# Altium footprint library Connectors.PcbLib: 3 footprints
Each footprint in its own frame and in the unit in brackets; x right, y up, seen from the top. Pads: shape width x height; smd on the part's side, far side on the other; paste and mask are expansions set on the pad; w line width, h text height; cw(c..) or ccw(c..) is an arc to the next point about the centre after c.
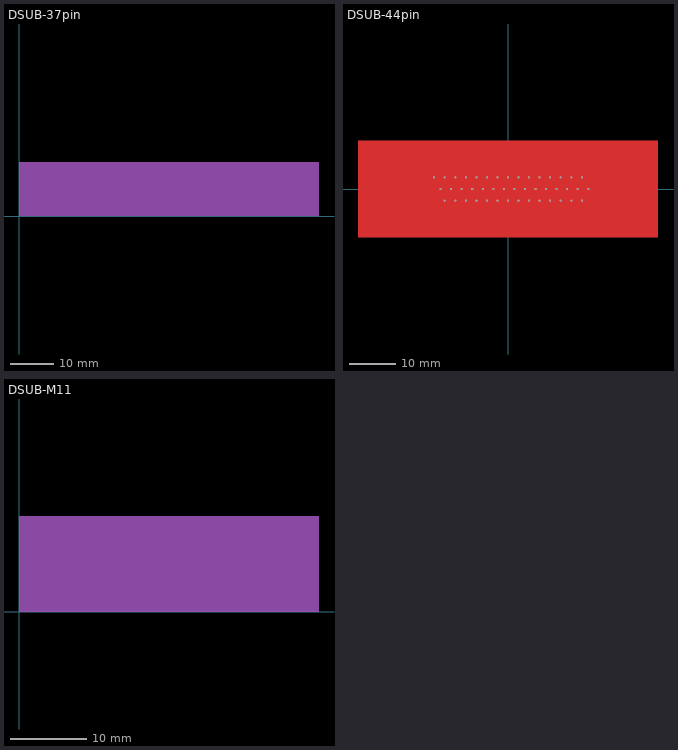
[diagram p0: the footprints below, top view; thin cyan lines are the x and y axes]

## DSUB-37pin [mil]
Top Solder:
  rectangle: 0,0 2732.28,492.13

## DSUB-44pin [mm] "A-HDF44LL-WP"
pads (44):
  round 0.44 hole 0.432: 1(-16.002,2.54) 2(-13.716,2.54) 3(-11.43,2.54) 4(-9.144,2.54) 5(-6.858,2.54) 6(-4.572,2.54) 7(-2.286,2.54) 8(0,2.54) 9(2.286,2.54) 10(4.572,2.54) 11(6.858,2.54) 12(9.144,2.54) 13(11.43,2.54) 14(13.716,2.54) 15(16.002,2.54) 16(-14.605,0) 17(-12.319,0) 18(-10.033,0) 19(-7.747,0) 20(-5.461,0) 21(-3.175,0) 22(-0.889,0) 23(1.397,0) 24(3.683,0) 25(5.969,0) 26(8.255,0) 27(10.541,0) 28(12.827,0) 29(15.113,0) 30(17.399,0) 31(-13.716,-2.54) 32(-11.43,-2.54) 33(-9.144,-2.54) 34(-6.858,-2.54) 35(-4.572,-2.54) 36(-2.286,-2.54) 37(0,-2.54) 38(2.286,-2.54) 39(4.572,-2.54) 40(6.858,-2.54) 41(9.144,-2.54) 42(11.43,-2.54) 43(13.716,-2.54) 44(16.002,-2.54)
Top Layer:
  rectangle: -32.512,-10.541 32.512,10.541

## DSUB-M11 [mil]
Top Solder:
  rectangle: 0,0 1543,492